# Altium footprint library APSD00080735.PcbLib: 1 footprints
Each footprint in its own frame and in the unit in brackets; x right, y up, seen from the top. Pads: shape width x height; smd on the part's side, far side on the other; paste and mask are expansions set on the pad; w line width, h text height; cw(c..) or ccw(c..) is an arc to the next point about the centre after c.
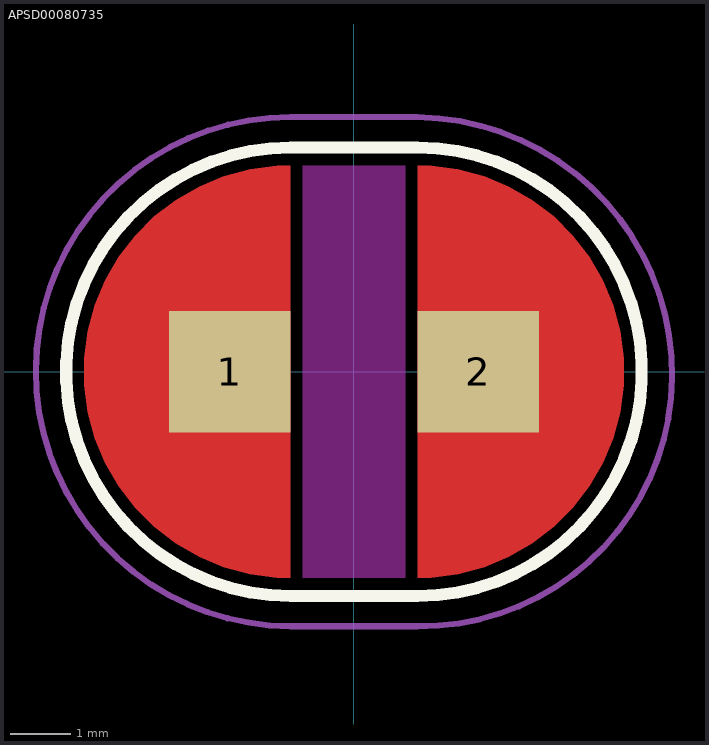
[diagram p0: the footprint, top view; thin cyan lines are the x and y axes]

## APSD00080735 [mm]
pads (2):
  rect 2x2 smd: 1(-2.05,0) 2(2.05,0)
Top Layer:
  region: -1.05,3.4 -1.273,3.4 -1.715,3.342 -2.145,3.226 -2.557,3.056 -2.943,2.833 -3.297,2.562 -3.612,2.247 -3.883,1.893 -4.106,1.507 -4.276,1.095 -4.392,0.665 -4.45,0.223 -4.45,0 -4.45,-0.223 -4.392,-0.665 -4.276,-1.095 -4.106,-1.507 -3.883,-1.893 -3.612,-2.247 -3.297,-2.562 -2.943,-2.833 -2.557,-3.056 -2.145,-3.226 -1.715,-3.342 -1.273,-3.4 -1.05,-3.4
  region: 1.05,-3.4 1.273,-3.4 1.715,-3.342 2.145,-3.226 2.557,-3.056 2.943,-2.833 3.297,-2.562 3.612,-2.247 3.883,-1.893 4.106,-1.507 4.276,-1.095 4.392,-0.665 4.45,-0.223 4.45,0 4.45,0.223 4.392,0.665 4.276,1.095 4.106,1.507 3.883,1.893 3.612,2.247 3.297,2.562 2.943,2.833 2.557,3.056 2.145,3.226 1.715,3.342 1.273,3.4 1.05,3.4
Top Layer keep-out:
  rectangle: -0.85,-3.4 0.85,3.4
Top Overlay:
  lines w0.2: -1.05,-3.7 cw(c-1.05,0) -1.05,3.7 1.05,3.7 cw(c1.05,0) 1.05,-3.7 -1.05,-3.7
Top Courtyard:
  lines w0.1: -5.25,0.025 cw(c-1.062,0.013) -1.05,4.2 1.05,4.2 cw(c1,-0.05) 5.25,-0.1 cw(c1.1,-0.05) 1.05,-4.2 -1.05,-4.2 cw(c-1.037,0.012) -5.25,0.025
3D body: height 3.5, standoff 0, extent -3.9,-3.499 3.9,3.499